# Altium footprint library Transistors.PcbLib: 33 footprints (part 3 of 3)
Each footprint in its own frame and in the unit in brackets; x right, y up, seen from the top. Pads: shape width x height; smd on the part's side, far side on the other; paste and mask are expansions set on the pad; w line width, h text height; cw(c..) or ccw(c..) is an arc to the next point about the centre after c.
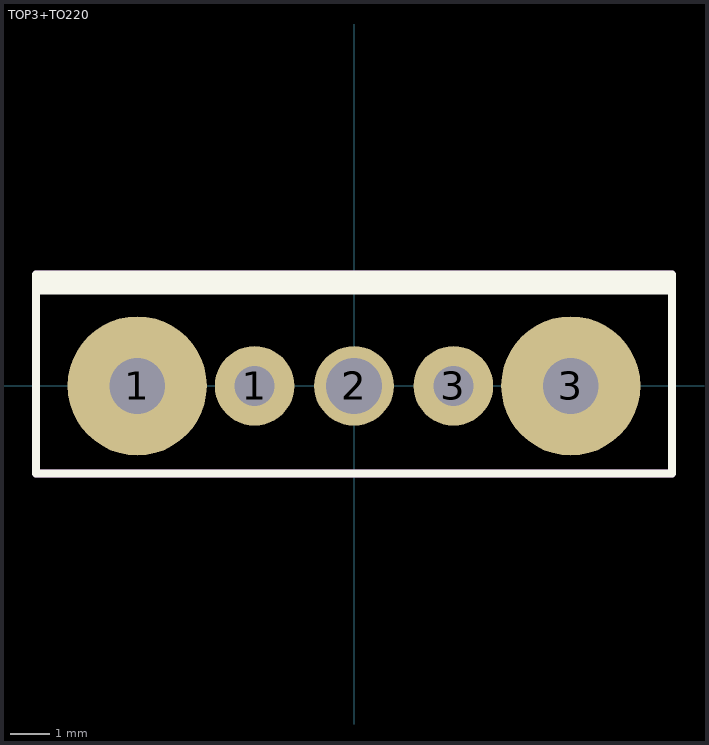
[diagram p2: the footprint, top view; thin cyan lines are the x and y axes]

## TOP3+TO220 [mm]
pads (6):
  round 3.5 hole 1.4: 1(-5.45,0) 3(5.45,0)
  round 2 hole 1: 1(-2.5,0) 2(0,0) 3(2.5,0)
  round 2 hole 1.4: 2(0,0)
Top Overlay:
  lines w0.2: -8,2.4 8,2.4 ; -8,2.6 8,2.6 ; -5,2.5 5,2.5 ; -5,2.7 5,2.7 ; -8,-2.2 -8,2.8 8,2.8 8,-2.2 -8,-2.2
Mechanical 15:
  lines w0.2: -8,-2.2 8,-2.2 8,2.8 -8,2.8 -8,-2.2
3D body "User Library-TO-247 CASE 340L-02 Vertical.STEP": height 27.55, standoff -13.85, extent -8,-2.2 8,2.8